# EAGLE library part TC7126 (library microchip2)
The TC7126A is a 3-1/2 digit CMOS analog-to-digital converter (ADC) containing all the active components necessary to construct a 0.05% resolution measurement system. Seven-segment decoders, digit and polarity drivers, voltage reference, and clock circuit are integrated on-chip. The TC7126A directly drives a liquid crystal display (LCD), and includes a backplane driver. A low cost, high resolution indicating meter requires only a display, four resistors, and four capacitors. The TC7126A's extremely low power drain and 9V battery operation make it ideal for portable applications. The TC7126A reduces linearity error to less than 1 count. Rollover error (the difference in readings for equal magnitude, but opposite polarity input signals) is below ±1 count. High-impedance differential inputs offer 1pA leakage current and a 1012Ω input impedance. The 15μVP-P noise performance ensures a "rock solid" reading, and the auto-zero cycle ensures a zero display reading with a 0V input. The TC7126A features a precision, low drift internal voltage reference and is functionally identical to the TC7126. A low drift external reference is not normally required with the TC7126A.
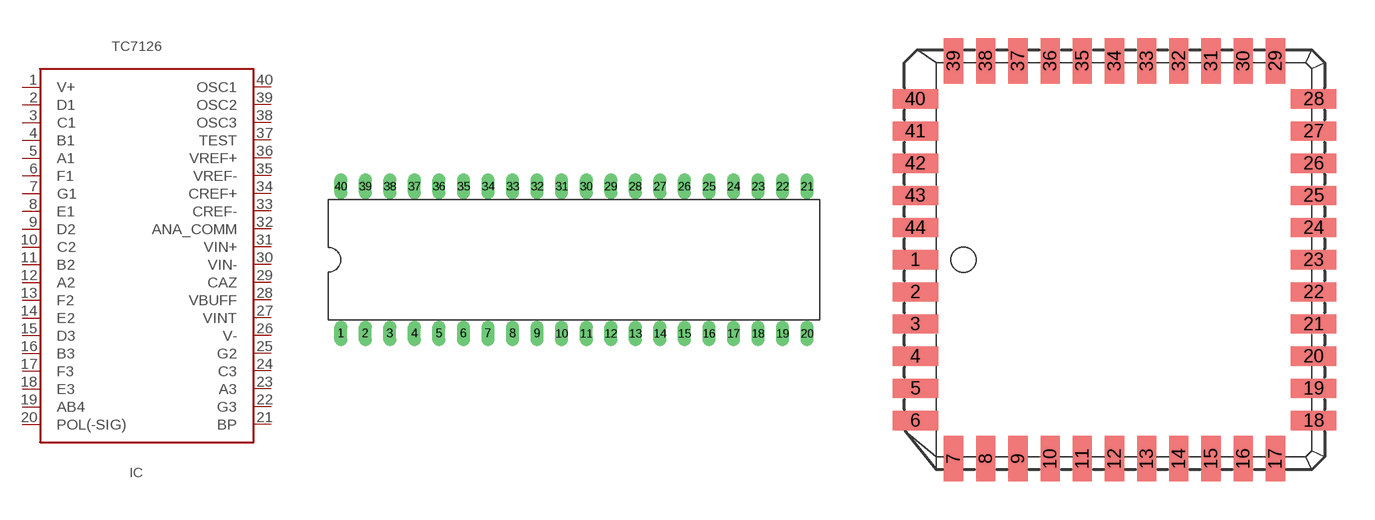
[diagram p182: symbol with the pads of DIL40; footprints DIL40, PLCC-44]

Designator prefix IC

## TC7126TC7126CPL/ACPL/IPL/AIPL  [DIL40]
1  V+  pwr
2  D1  out
3  C1  out
4  B1  out
5  A1  out
6  F1  out
7  G1  out
8  E1  out
9  D2  out
10  C2  out
11  B2  out
12  A2  out
13  F2  out
14  E2  out
15  D3  out
16  B3  out
17  F3  out
18  E3  out
19  AB4  out
20  POL(-SIG)  out
21  BP  out
22  G3  out
23  A3  out
24  C3  out
25  G2  out
26  V-  pwr
27  VINT  in
28  VBUFF  in
29  CAZ
30  VIN-  in
31  VIN+  in
32  ANA_COMM
33  CREF-
34  CREF+
35  VREF-
36  VREF+
37  TEST
38  OSC3
39  OSC2
40  OSC1

## TC7126TC7126RCPL/ARCPL/RIPL/ARIPL  [DIL40]
1  OSC1
2  OSC2
3  OSC3
4  TEST
5  VREF+
6  VREF-
7  CREF+
8  CREF-
9  ANA_COMM
10  VIN+  in
11  VIN-  in
12  CAZ
13  VBUFF  in
14  VINT  in
15  V-  pwr
16  G2  out
17  C3  out
18  A3  out
19  G3  out
20  BP  out
21  POL(-SIG)  out
22  AB4  out
23  E3  out
24  F3  out
25  B3  out
26  D3  out
27  E2  out
28  F2  out
29  A2  out
30  B2  out
31  C2  out
32  D2  out
33  E1  out
34  G1  out
35  F1  out
36  A1  out
37  B1  out
38  C1  out
39  D1  out
40  V+  pwr

## TC7126TC7126CLW/ACLW  [PLCC-44]
2  V+  pwr
3  D1  out
4  C1  out
5  B1  out
6  A1  out
7  F1  out
8  G1  out
9  E1  out
10  D2  out
11  C2  out
13  B2  out
14  A2  out
15  F2  out
16  E2  out
17  D3  out
18  B3  out
19  F3  out
20  E3  out
21  AB4  out
22  POL(-SIG)  out
24  BP  out
25  G3  out
26  A3  out
27  C3  out
28  G2  out
29  V-  pwr
30  VINT  in
31  VBUFF  in
32  CAZ
33  VIN-  in
35  VIN+  in
36  ANA_COMM
37  CREF-
38  CREF+
39  VREF-
40  VREF+
41  TEST
42  OSC3
43  OSC2
44  OSC1

## TC7126TC7126CKW/ACKW  [PQFP44]
3  TEST
4  OSC3
6  OSC2
7  OSC1
8  V+  pwr
9  D1  out
10  C1  out
11  B1  out
12  A1  out
13  F1  out
14  G1  out
15  E1  out
16  D2  out
17  C2  out
18  B2  out
19  A2  out
20  F2  out
21  E2  out
22  D3  out
23  B3  out
24  F3  out
25  E3  out
26  AB4  out
27  POL(-SIG)  out
28  BP  out
29  G3  out
30  A3  out
31  C3  out
32  G2  out
34  V-  pwr
35  VINT  in
36  VBUFF  in
37  CAZ
38  VIN-  in
39  VIN+  in
40  ANA_COMM
41  CREF-
42  CREF+
43  VREF-
44  VREF+

## Footprint DIL40 (pad centres in mm)
Dual In Line package type P
drill 0.813 long: 1 -24.13,-7.62; 2 -21.59,-7.62; 3 -19.05,-7.62; 4 -16.51,-7.62; 5 -13.97,-7.62; 6 -11.43,-7.62; 7 -8.89,-7.62; 8 -6.35,-7.62; 9 -3.81,-7.62; 10 -1.27,-7.62; 11 1.27,-7.62; 12 3.81,-7.62; 13 6.35,-7.62; 14 8.89,-7.62; 15 11.43,-7.62; 16 13.97,-7.62; 17 16.51,-7.62; 18 19.05,-7.62; 19 21.59,-7.62; 20 24.13,-7.62; 21 24.13,7.62; 22 21.59,7.62; 23 19.05,7.62; 24 16.51,7.62; 25 13.97,7.62; 26 11.43,7.62; 27 8.89,7.62; 28 6.35,7.62; 29 3.81,7.62; 30 1.27,7.62; 31 -1.27,7.62; 32 -3.81,7.62; 33 -6.35,7.62; 34 -8.89,7.62; 35 -11.43,7.62; 36 -13.97,7.62; 37 -16.51,7.62; 38 -19.05,7.62; 39 -21.59,7.62; 40 -24.13,7.62

## Footprint PLCC-44 (pad centres in mm)
Plastic LCC square package type L
smd 1.8 x 0.76: 1 -7.86,0; 2 -7.86,-1.27; 3 -7.86,-2.54; 4 -7.86,-3.81; 5 -7.86,-5.08; 6 -7.86,-6.35; 18 7.86,-6.35; 19 7.86,-5.08; 20 7.86,-3.81; 21 7.86,-2.54; 22 7.86,-1.27; 23 7.86,0; 24 7.86,1.27; 25 7.86,2.54; 26 7.86,3.81; 27 7.86,5.08; 28 7.86,6.35; 40 -7.86,6.35; 41 -7.86,5.08; 42 -7.86,3.81; 43 -7.86,2.54; 44 -7.86,1.27
smd 0.76 x 1.8: 7 -6.35,-7.86; 8 -5.08,-7.86; 9 -3.81,-7.86; 10 -2.54,-7.86; 11 -1.27,-7.86; 12 0,-7.86; 13 1.27,-7.86; 14 2.54,-7.86; 15 3.81,-7.86; 16 5.08,-7.86; 17 6.35,-7.86; 29 6.35,7.86; 30 5.08,7.86; 31 3.81,7.86; 32 2.54,7.86; 33 1.27,7.86; 34 0,7.86; 35 -1.27,7.86; 36 -2.54,7.86; 37 -3.81,7.86; 38 -5.08,7.86; 39 -6.35,7.86

## Footprint PQFP44 (pad centres in mm)
Plastic Quad Flat Package
smd 2 x 0.5: 1 -6.2,4; 2 -6.2,3.2; 3 -6.2,2.4; 4 -6.2,1.6; 5 -6.2,0.8; 6 -6.2,0; 7 -6.2,-0.8; 8 -6.2,-1.6; 9 -6.2,-2.4; 10 -6.2,-3.2; 11 -6.2,-4; 23 6.2,-4; 24 6.2,-3.2; 25 6.2,-2.4; 26 6.2,-1.6; 27 6.2,-0.8; 28 6.2,0; 29 6.2,0.8; 30 6.2,1.6; 31 6.2,2.4; 32 6.2,3.2; 33 6.2,4
smd 0.5 x 2: 12 -4,-6.2; 13 -3.2,-6.2; 14 -2.4,-6.2; 15 -1.6,-6.2; 16 -0.8,-6.2; 17 0,-6.2; 18 0.8,-6.2; 19 1.6,-6.2; 20 2.4,-6.2; 21 3.2,-6.2; 22 4,-6.2; 34 4,6.2; 35 3.2,6.2; 36 2.4,6.2; 37 1.6,6.2; 38 0.8,6.2; 39 0,6.2; 40 -0.8,6.2; 41 -1.6,6.2; 42 -2.4,6.2; 43 -3.2,6.2; 44 -4,6.2